# Altium integrated library MC9S08JM32CLD.IntLib: 1 symbol
Pins are listed as number, name and electrical type; pins without a type are passive.

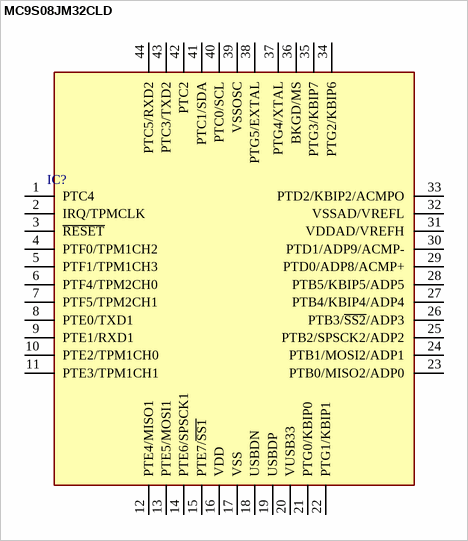
[diagram p0: symbol MC9S08JM32CLD]

## MC9S08JM32CLD
designator IC?  (value not drawn)
Integrated Circuit
footprint LQFP 44pins
pins: 1 PTC4, 2 IRQ/TPMCLK, 3 ~{RESET}, 4 PTF0/TPM1CH2, 5 PTF1/TPM1CH3, 6 PTF4/TPM2CH0, 7 PTF5/TPM2CH1, 8 PTE0/TXD1, 9 PTE1/RXD1, 10 PTE2/TPM1CH0, 11 PTE3/TPM1CH1, 12 PTE4/MISO1, 13 PTE5/MOSI1, 14 PTE6/SPSCK1, 15 PTE7/~{SS1}, 16 VDD, 17 VSS, 18 USBDN, 19 USBDP, 20 VUSB33, 21 PTG0/KBIP0, 22 PTG1/KBIP1, 23 PTB0/MISO2/ADP0, 24 PTB1/MOSI2/ADP1, 25 PTB2/SPSCK2/ADP2, 26 PTB3/~{SS2}/ADP3, 27 PTB4/KBIP4/ADP4, 28 PTB5/KBIP5/ADP5, 29 PTD0/ADP8/ACMP+, 30 PTD1/ADP9/ACMP-, 31 VDDAD/VREFH, 32 VSSAD/VREFL, 33 PTD2/KBIP2/ACMPO, 34 PTG2/KBIP6, 35 PTG3/KBIP7, 36 BKGD/MS, 37 PTG4/XTAL, 38 PTG5/EXTAL, 39 VSSOSC, 40 PTC0/SCL, 41 PTC1/SDA, 42 PTC2, 43 PTC3/TXD2, 44 PTC5/RXD2